# Altium schematic symbol library MIC5205-x.xBM5-YM5.SchLib: 1 symbol
Pins are listed as number, name and electrical type; pins without a type are passive.

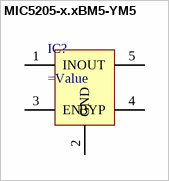
[diagram p0: symbol MIC5205-x.xBM5-YM5]

## MIC5205-x.xBM5-YM5
designator IC?
=Description
pins: 1 IN (power), 2 GND (power), 3 EN, 4 BYP, 5 OUT (power)